# EAGLE library part DDC101 (library burr-brown)
20-Bit ADC
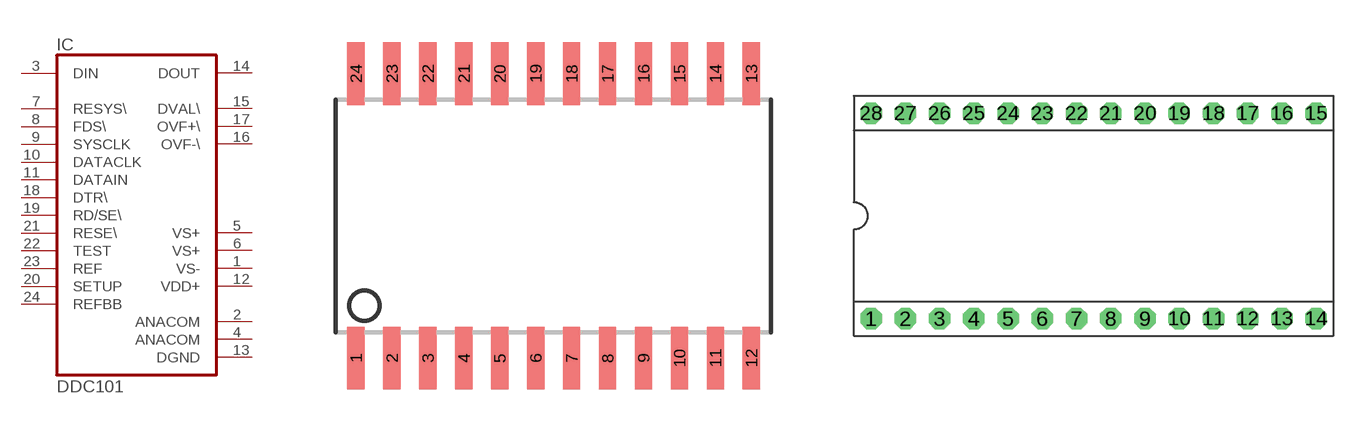
[diagram p141: symbol with the pads of SO24L; footprints SO24L, DIL28]

Designator prefix IC

## DDC101U  [SO24L]
1  VS-  pwr
2  ANACOM  pwr
3  DIN  in
4  ANACOM  pwr
5  VS+  pwr
6  VS+  pwr
7  RESYS\  in
8  FDS\  in
9  SYSCLK  in
10  DATACLK  in
11  DATAIN  in
12  VDD+  pwr
13  DGND  nc
14  DOUT  out
15  DVAL\  out
16  OVF-\  out
17  OVF+\  out
18  DTR\  in
19  RD/SE\  in
20  SETUP  in
21  RESE\  in
22  TEST  in
23  REF  in
24  REFBB  pas

## DDC101P  [DIL28]
1  VS-  pwr
2  ANACOM  pwr
3  DIN  in
4  ANACOM  pwr
5  VS+  pwr
6  VS+  pwr
9  RESYS\  in
10  FDS\  in
11  SYSCLK  in
12  DATACLK  in
13  DATAIN  in
14  VDD+  pwr
15  DGND  nc
16  DOUT  out
17  DVAL\  out
18  OVF-\  out
19  OVF+\  out
20  DTR\  in
23  RD/SE\  in
24  SETUP  in
25  RESE\  in
26  TEST  in
27  REF  in
28  REFBB  pas

## Footprint SO24L (pad centres in mm)
Small Outline Package, large
smd 0.61 x 2.21: 1 -6.985,-5.029; 2 -5.715,-5.029; 3 -4.445,-5.029; 4 -3.175,-5.029; 5 -1.905,-5.029; 6 -0.635,-5.029; 7 0.635,-5.029; 8 1.905,-5.029; 9 3.175,-5.029; 10 4.445,-5.029; 11 5.715,-5.029; 12 6.985,-5.029; 13 6.985,5.029; 14 5.715,5.029; 15 4.445,5.029; 16 3.175,5.029; 17 1.905,5.029; 18 0.635,5.029; 19 -0.635,5.029; 20 -1.905,5.029; 21 -3.175,5.029; 22 -4.445,5.029; 23 -5.715,5.029; 24 -6.985,5.029

## Footprint DIL28 (pad centres in mm)
Dual In Line
drill 0.813 pad 1.6 octagon: 1 -16.51,-7.62; 2 -13.97,-7.62; 3 -11.43,-7.62; 4 -8.89,-7.62; 5 -6.35,-7.62; 6 -3.81,-7.62; 7 -1.27,-7.62; 8 1.27,-7.62; 9 3.81,-7.62; 10 6.35,-7.62; 11 8.89,-7.62; 12 11.43,-7.62; 13 13.97,-7.62; 14 16.51,-7.62; 15 16.51,7.62; 16 13.97,7.62; 17 11.43,7.62; 18 8.89,7.62; 19 6.35,7.62; 20 3.81,7.62; 21 1.27,7.62; 22 -1.27,7.62; 23 -3.81,7.62; 24 -6.35,7.62; 25 -8.89,7.62; 26 -11.43,7.62; 27 -13.97,7.62; 28 -16.51,7.62